# Altium schematic symbol library C45783.SchLib: 1 symbol
Pins are listed as number, name and electrical type; pins without a type are passive.

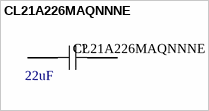
[diagram p0: symbol CL21A226MAQNNNE]

## CL21A226MAQNNNE
designator C?  value 22uF
22uF ±20% 25V Ceramic Capacitor X5R 0805; Name: C45783; Source: LCSC
footprint C0805 (22uF ±20% 25V Ceramic Capacitor X5R 0805)
pins: 1, 2